# Altium footprint library ATMEL ATWINC1500-MR210PB.PCBLIB: 1 footprints
Each footprint in its own frame and in the unit in brackets; x right, y up, seen from the top. Pads: shape width x height; smd on the part's side, far side on the other; paste and mask are expansions set on the pad; w line width, h text height; cw(c..) or ccw(c..) is an arc to the next point about the centre after c.
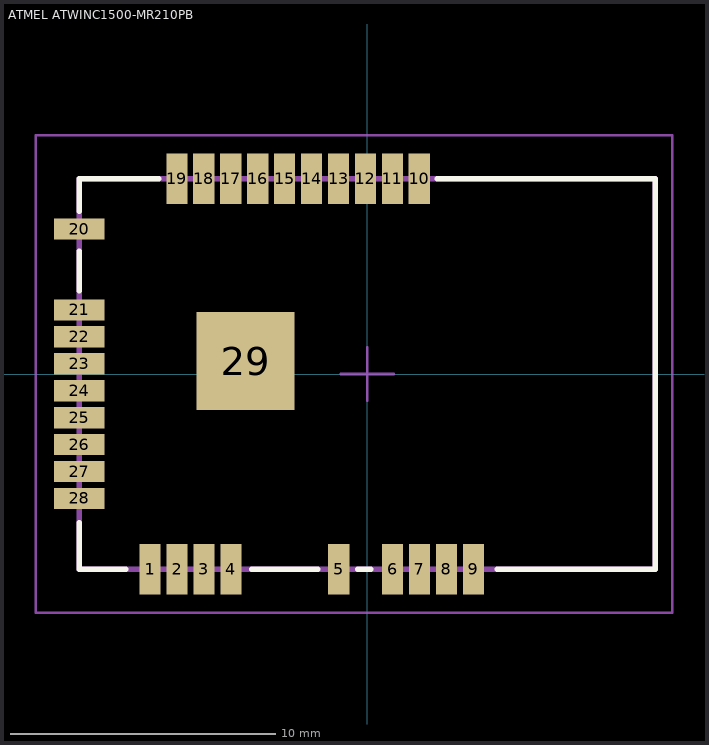
[diagram p0: the footprint, top view; thin cyan lines are the x and y axes]

## ATMEL ATWINC1500-MR210PB [mm]
height 2.2
pads (29):
  rect 0.8x1.9 smd: 1(-8.19,-7.365) 2(-7.174,-7.365) 3(-6.158,-7.365) 4(-5.142,-7.365) 5(-1.078,-7.365) 6(0.954,-7.365) 7(1.97,-7.365) 8(2.986,-7.365) 9(4.002,-7.365) 10(1.964,7.365) 11(0.948,7.365) 12(-0.068,7.365) 13(-1.084,7.365) 14(-2.1,7.365) 15(-3.116,7.365) 16(-4.132,7.365) 17(-5.148,7.365) 18(-6.164,7.365) 19(-7.18,7.365)
  rect 1.9x0.8 smd: 20(-10.86,5.465) 21(-10.86,2.417) 22(-10.86,1.401) 23(-10.86,0.385) 24(-10.86,-0.631) 25(-10.86,-1.647) 26(-10.86,-2.663) 27(-10.86,-3.679) 28(-10.86,-4.695)
  rect 3.7x3.7 smd: 29(-4.59,0.485)
Top Overlay:
  lines w0.2: -10.86,-5.615 -10.86,-7.365 -9.11,-7.365 ; -10.86,3.135 -10.86,4.635 ; -10.86,6.135 -10.86,7.365 -7.86,7.365 ; -4.36,-7.365 -1.86,-7.365 ; -0.36,-7.365 0.14,-7.365 ; 2.64,7.365 10.86,7.365 10.86,-7.365 4.89,-7.365
Mechanical 1:
  lines w0.2: -10.86,-7.365 10.86,-7.365 10.86,7.365 -10.86,7.365 -10.86,-7.365
Mechanical 15:
  lines w0.1: -1,0 1,0 ; 0,-1 0,1 ; -12.5,-9 -12.5,9 11.5,9 11.5,-9 -12.5,-9
3D body "ATWINC1500-MR210PB.STEP": height 2.2, standoff 0, extent -10.86,-7.365 10.86,7.365